# EAGLE library part SENS_A-MMA8452 (library eagleLib v2)
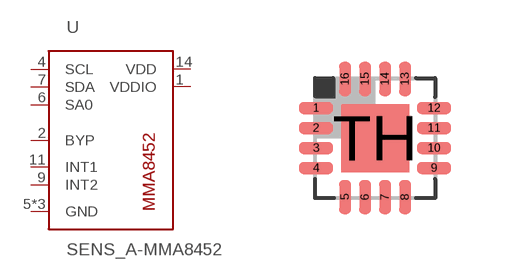
[diagram p35: symbol with the pads of QFN16; footprint QFN16]

Designator prefix -

## SENS_A-MMA8452  [QFN16]
1  VDDIO
2  BYP
4  SCL
5  GND
6  SA0
7  SDA
9  INT2
10  GND
11  INT1
12  GND
14  VDD

## Footprint QFN16 (pad centres in mm)
RTE (S-PQFP-N16) 3x3 mm Source: www.ti.com .. tpa6132a2 direct path stereo $.65.pdf
smd 0.85 x 0.3: 1 -1.475,0.75; 2 -1.475,0.25; 3 -1.475,-0.25; 4 -1.475,-0.75; 9 1.475,-0.75; 10 1.475,-0.25; 11 1.475,0.25; 12 1.475,0.75
smd 0.3 x 0.85: 5 -0.75,-1.475; 6 -0.25,-1.475; 7 0.25,-1.475; 8 0.75,-1.475; 13 0.75,1.475; 14 0.25,1.475; 15 -0.25,1.475; 16 -0.75,1.475
smd 1.7 x 1.7: TH 0,0